# EAGLE library part ZN1040E (library zn1040e (1))
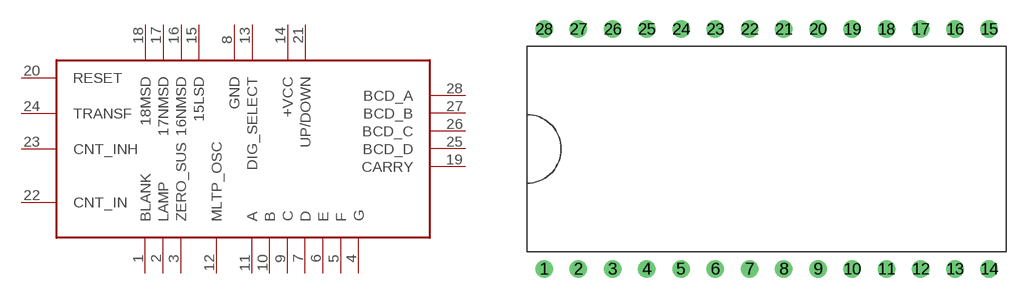
[diagram p0: symbol with the pads of ZN1040E; footprint ZN1040E]

Designator prefix -

## ZN1040E  [ZN1040E]
1  BLANK
2  LAMP
3  ZERO_SUS
4  G
5  F
6  E
7  D
8  GND
9  C
10  B
11  A
12  MLTP_OSC
13  DIG_SELECT
14  +VCC
15  15LSD
16  16NMSD
17  17NMSD
18  18MSD
19  CARRY
20  RESET
21  UP/DOWN
22  CNT_IN
23  CNT_INH
24  TRANSF
25  BCD_D
26  BCD_C
27  BCD_B
28  BCD_A

## Footprint ZN1040E (pad centres in mm)
drill 0.8: 1 1.27,-1.27; 2 3.81,-1.27; 3 6.35,-1.27; 4 8.89,-1.27; 5 11.43,-1.27; 6 13.97,-1.27; 7 16.51,-1.27; 8 19.05,-1.27; 9 21.59,-1.27; 10 24.13,-1.27; 11 26.67,-1.27; 12 29.21,-1.27; 13 31.75,-1.27; 14 34.29,-1.27; 15 34.29,16.51; 16 31.75,16.51; 17 29.21,16.51; 18 26.67,16.51; 19 24.13,16.51; 20 21.59,16.51; 21 19.05,16.51; 22 16.51,16.51; 23 13.97,16.51; 24 11.43,16.51; 25 8.89,16.51; 26 6.35,16.51; 27 3.81,16.51; 28 1.27,16.51